# Altium schematic symbol library ANT.SchLib: 8 symbols
Pins are listed as number, name and electrical type; pins without a type are passive.

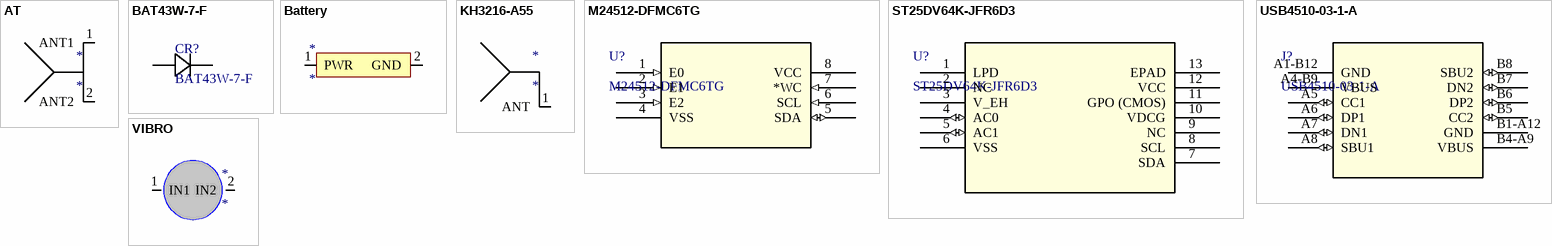
[diagram p0: symbols AT to VIBRO]

## AT
designator *
footprint AC
pins: 1 ANT1, 2 ANT2

## BAT43W-7-F
designator CR?
Mfr_Name: Diodes Inc; Type: DEV; Copyright: Copyright (C) 2023 Ultra Librarian. All rights reserved.; Manufacturer_Part_Number: BAT43W-7-F; RefDes: RefDes
footprint SOD123_DIO
pins: 1, 2

## Battery
designator *
footprint Battery
pins: 1 PWR (power), 2 GND (power)

## KH3216-A55
designator *
footprint KH3216-A55
pins: 1 ANT

## M24512-DFMC6TG
designator U?
Mfr_Name: STMicroelectronics; Copyright: Copyright (C) 2023 Ultra Librarian. All rights reserved.; Manufacturer_Part_Number: M24512-DFMC6TG; RefDes: RefDes; Type: DEV
footprint UFDFPN8_STM
pins: 1 E0 (in), 2 E1 (in), 3 E2 (in), 4 VSS, 5 SDA (io), 6 SCL (in), 7 *WC (in), 8 VCC (power)

## ST25DV64K-JFR6D3
designator U?
Mfr_Name: STMicroelectronics; Copyright: Copyright (C) 2023 Ultra Librarian. All rights reserved.; Manufacturer_Part_Number: ST25DV64K-JFR6D3; RefDes: RefDes; Type: DEV
footprint UFDFPN12_3X3_STM
pins: 1 LPD, 2 NC, 3 V_EH, 4 AC0 (io), 5 AC1 (io), 6 VSS, 7 SDA, 8 SCL, 9 NC, 10 VDCG, 11 GPO (CMOS), 12 VCC (power), 13 EPAD

## USB4510-03-1-A
designator J?
Mfr_Name: Global Connector Technology; Copyright: Copyright (C) 2023 Ultra Librarian. All rights reserved.; Manufacturer_Part_Number: USB4510-03-1-A; RefDes: RefDes; Type: Type
footprint USB4510-03-1-A_GCT
pins: A1-B12 GND, A4-B9 VBUS (power), A5 CC1 (io), A6 DP1 (io), A7 DN1 (io), A8 SBU1 (io), B1-A12 GND, B4-A9 VBUS (power), B5 CC2 (io), B6 DP2 (io), B7 DN2 (io), B8 SBU2 (io)

## VIBRO
designator *
footprint VIBRO
pins: 1 IN1, 2 IN2